# EAGLE library part NRF24L01P_MODULE (library RFM70)
Low power 2.4GHz wireless module NRF24L01P
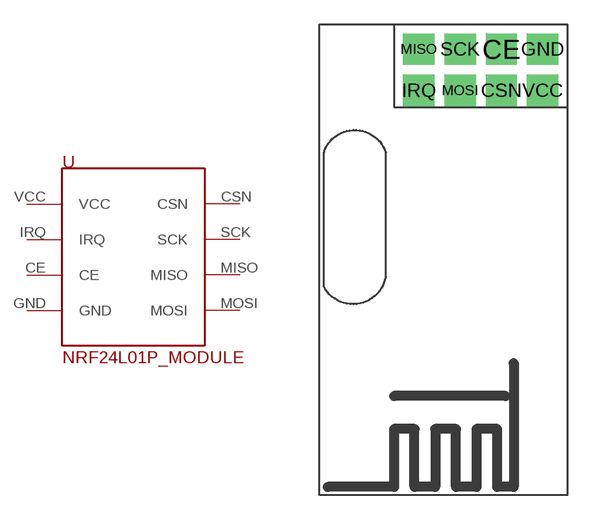
[diagram p1: symbol with the pads of NRF24L01_MODULE; footprint NRF24L01_MODULE]

Designator prefix -

## NRF24L01P_MODULE  [NRF24L01_MODULE]
CE  CE  in
CSN  CSN  in
GND  GND  pwr
IRQ  IRQ  out
MISO  MISO
MOSI  MOSI
SCK  SCK  in
VCC  VCC  pwr

## Footprint NRF24L01_MODULE (pad centres in mm)
drill 1 pad 1.93 square: CE 11.176,-1.524; CSN 11.176,-4.064; GND 13.716,-1.524; IRQ 6.096,-4.064; MISO 6.096,-1.524; MOSI 8.636,-4.064; SCK 8.636,-1.524; VCC 13.716,-4.064